# Altium footprint library QFN_RUN.PcbLib: 1 footprints
Each footprint in its own frame and in the unit in brackets; x right, y up, seen from the top. Pads: shape width x height; smd on the part's side, far side on the other; paste and mask are expansions set on the pad; w line width, h text height; cw(c..) or ccw(c..) is an arc to the next point about the centre after c.
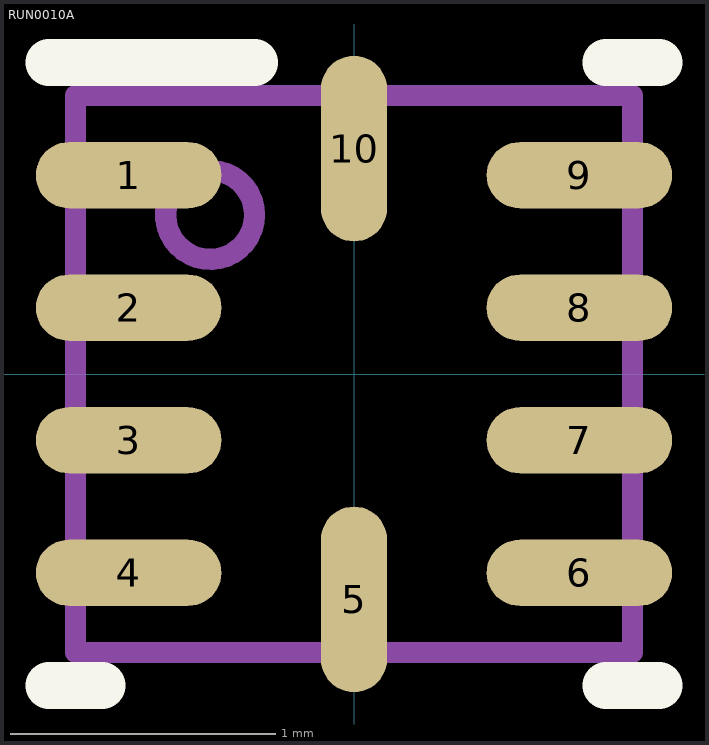
[diagram p0: the footprint, top view; thin cyan lines are the x and y axes]

## RUN0010A [mm]
pads (10):
  oval 0.7x0.25 smd paste+0 mask+0.051: 1(-0.85,0.75) 2(-0.85,0.25) 3(-0.85,-0.25) 4(-0.85,-0.75) 6(0.85,-0.75) 7(0.85,-0.25) 8(0.85,0.25) 9(0.85,0.75)
  oval 0.25x0.7 smd paste+0 mask+0.051: 5(0,-0.85) 10(0,0.85)
Top Overlay:
  lines w0.178: -1.15,-1.175 -0.95,-1.175 ; -1.15,1.175 -0.375,1.175 ; 0.95,-1.175 1.15,-1.175 ; 0.95,1.175 1.15,1.175
Mechanical 13:
  circle w0.08: c-0.543,0.6 r0.168
  lines w0.08: -1.05,-1.05 -1.05,1.05 1.05,1.05 1.05,-1.05 -1.05,-1.05
  text ".Designator" at -0.85,-0.885 h1.27
3D body "QFN_RUN10.stp": height 0.8, standoff 0, extent -1,-1 1,1